# EAGLE library part LT1461DHS8-3.3PBF (library maholli)
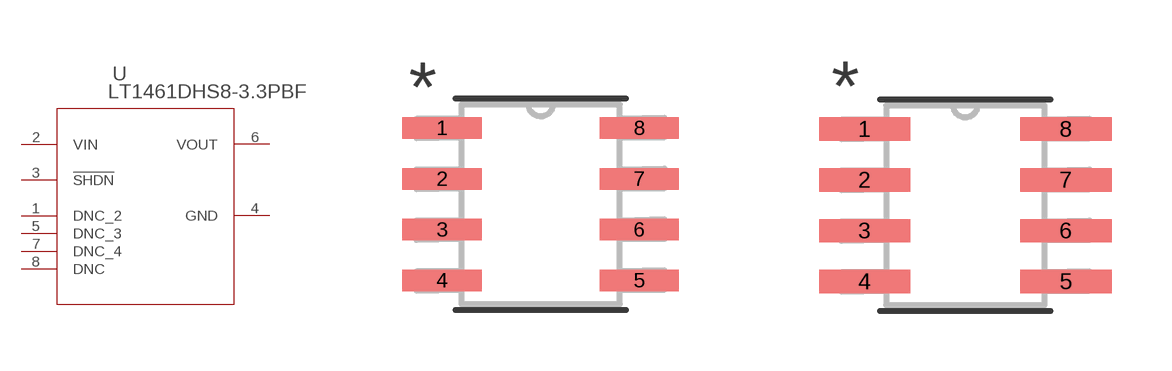
[diagram p8: symbol with the pads of SO-8_S; footprints SO-8_S, SO-8_S-M]

Designator prefix U

## LT1461DHS8-3.3PBF (MANUFACTURER_PART_NUMBER: LT1461DHS83.3#PBF; VENDOR: Linear Technology)  [SO-8_S]
1  DNC_2  nc
2  VIN  in
3  !SHDN  pas
4  GND  pwr
5  DNC_3  nc
6  VOUT  out
7  DNC_4  nc
8  DNC  nc

## LT1461DHS8-3.3PBFSO-8_S-M (MANUFACTURER_PART_NUMBER: LT1461DHS83.3#PBF; VENDOR: Linear Technology)  [SO-8_S-M]
Pads as for SO-8_S

## LT1461DHS8-3.3PBFSO-8_S-L (MANUFACTURER_PART_NUMBER: LT1461DHS83.3#PBF; VENDOR: Linear Technology)  [SO-8_S-L]
Pads as for SO-8_S

## Footprint SO-8_S (pad centres in mm)
smd 1.981 x 0.533: 1 -2.464,1.905; 2 -2.464,0.635; 3 -2.464,-0.635; 4 -2.464,-1.905; 5 2.464,-1.905; 6 2.464,-0.635; 7 2.464,0.635; 8 2.464,1.905

## Footprint SO-8_S-M (pad centres in mm)
smd 2.286 x 0.584: 1 -2.515,1.905; 2 -2.515,0.635; 3 -2.515,-0.635; 4 -2.515,-1.905; 5 2.515,-1.905; 6 2.515,-0.635; 7 2.515,0.635; 8 2.515,1.905

## Footprint SO-8_S-L (pad centres in mm)
smd 1.676 x 0.483: 1 -2.413,1.905; 2 -2.413,0.635; 3 -2.413,-0.635; 4 -2.413,-1.905; 5 2.413,-1.905; 6 2.413,-0.635; 7 2.413,0.635; 8 2.413,1.905